# Altium integrated library SSM3J15FU,LF.IntLib: 1 symbol
Pins are listed as number, name and electrical type; pins without a type are passive.

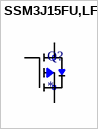
[diagram p0: symbol SSM3J15FU,LF]

## SSM3J15FU,LF
designator Q?
MOSFET P-CH 30V 0.1A USM / Manufacturer PN: SSM3J15FU,LF
footprint SOT323
pins: 1 G, 2 S, 3 D